# Altium integrated library WE-PF_1280.IntLib: 1 symbol
Pins are listed as number, name and electrical type; pins without a type are passive.

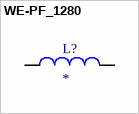
[diagram p0: symbol WE-PF_1280]

## WE-PF_1280
designator L?
FERRITE BEAD 185 OHM 2SMD 1LN; MF: WÃ¼rth Elektronik; MP: 7427929115; SnapEDA_Link: https://www.snapeda.com/parts/7427929115/W%25C3%25BCrth+Elektronik+Midcom/view-part/?ref=snap; Package: SMD-2 WÃ¼rth Elektronik; Value: *; Check_prices: https://www.snapeda.com/parts/7427929115/W%25C3%25BCrth+Elektronik+Midcom/view-part/?ref=eda
footprint WE-PF_1280
pins: 1, 2